# Altium schematic symbol library XU-GENARAL SCH.SCHLIB: 318 symbols (part 2 of 2)
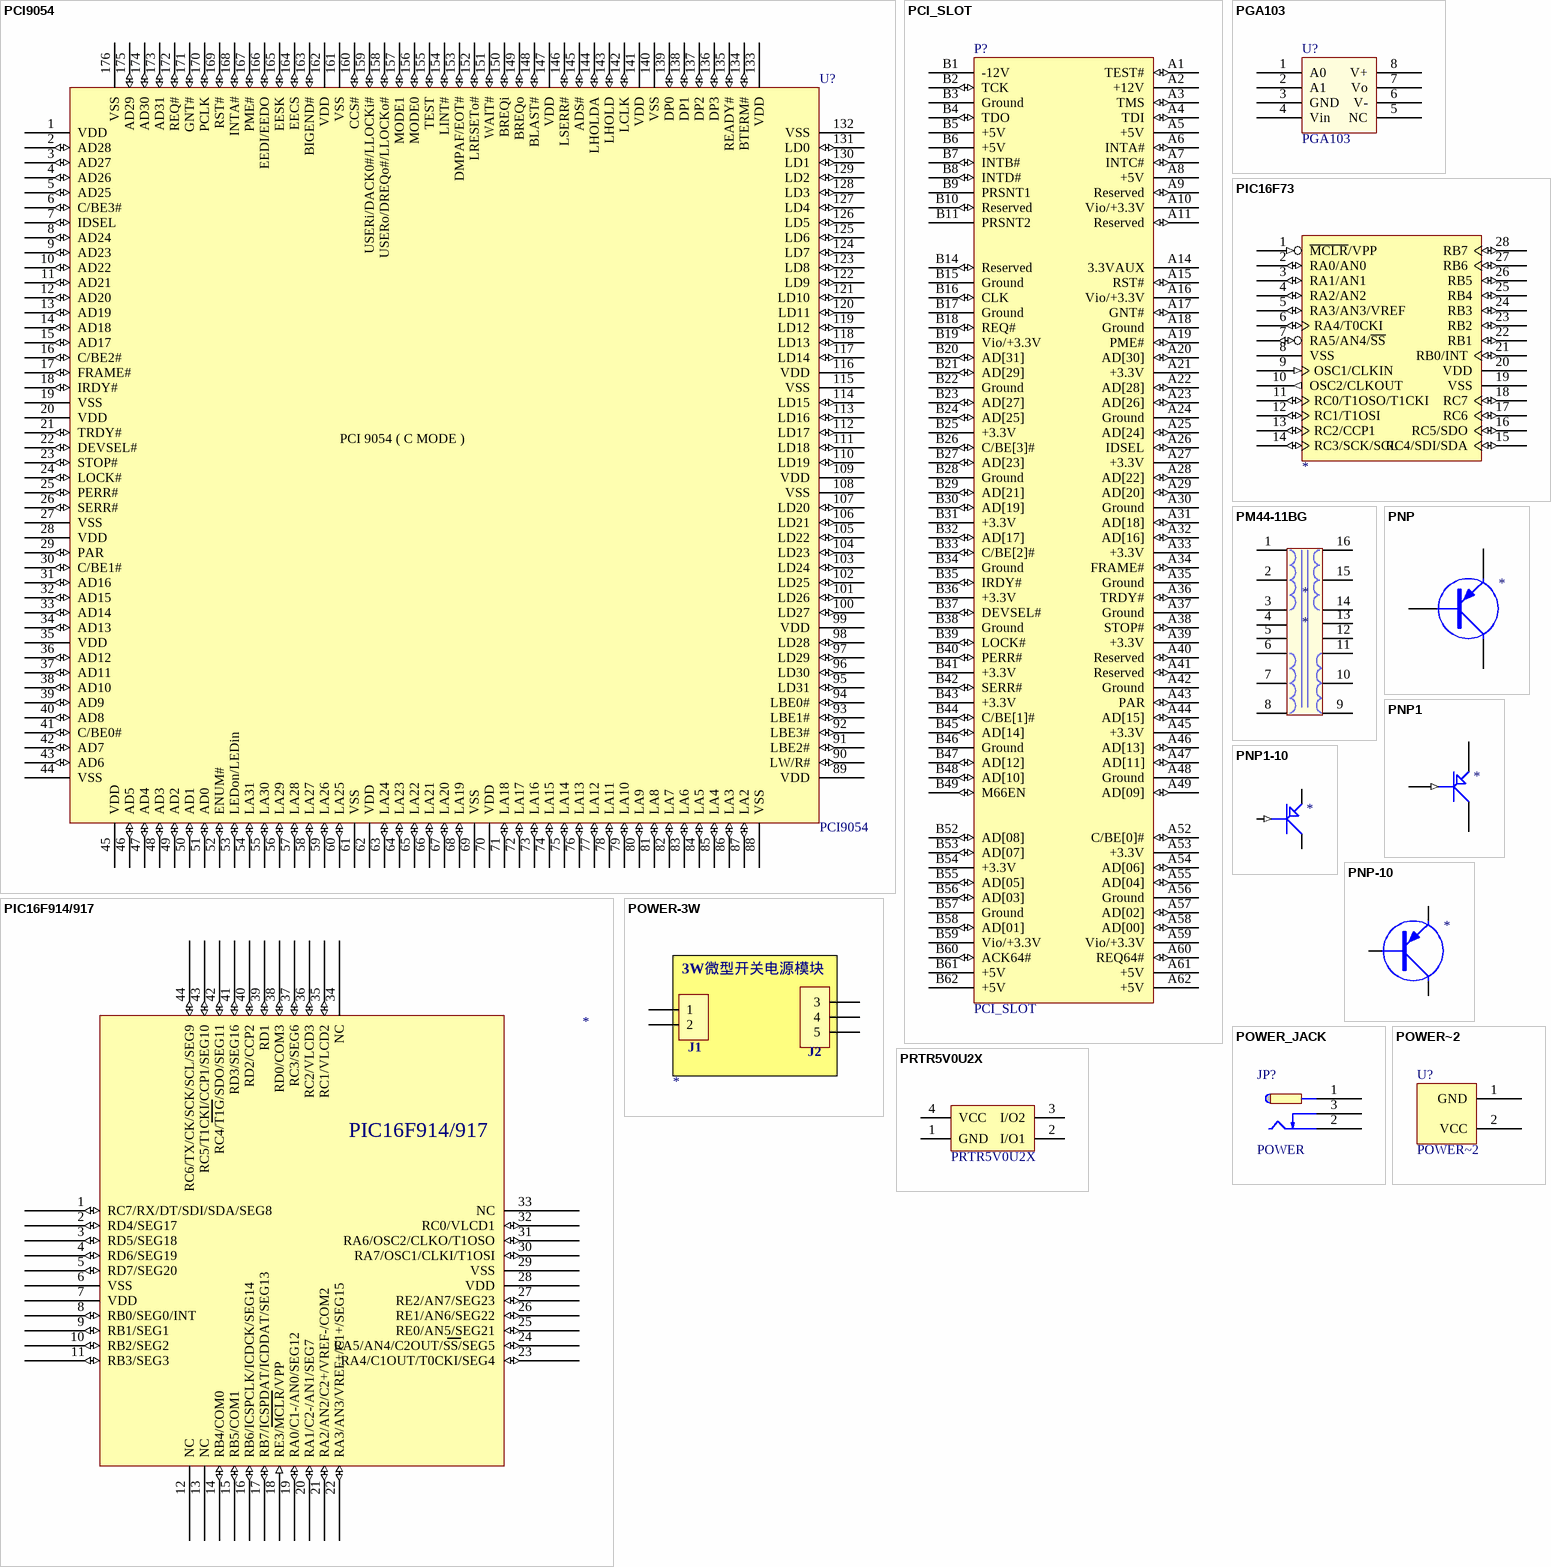
[diagram p15: symbols PCI9054 to PRTR5V0U2X]

## PCI9054
designator U?
footprint PQFP176
pins: 1 VDD, 2 AD28 (io), 3 AD27 (io), 4 AD26 (io), 5 AD25 (io), 6 C/BE3# (io), 7 IDSEL (io), 8 AD24 (io), 9 AD23 (io), 10 AD22 (io), 11 AD21 (io), 12 AD20 (io), 13 AD19 (io), 14 AD18 (io), 15 AD17 (io), 16 C/BE2# (io), 17 FRAME# (io), 18 IRDY# (io), 19 VSS, 20 VDD, 21 TRDY# (io), 22 DEVSEL# (io), 23 STOP# (io), 24 LOCK# (io), 25 PERR# (io), 26 SERR# (io), 27 VSS, 28 VDD, 29 PAR (io), 30 C/BE1# (io), 31 AD16 (io), 32 AD15 (io), 33 AD14 (io), 34 AD13 (io), 35 VDD, 36 AD12 (io), 37 AD11 (io), 38 AD10 (io), 39 AD9 (io), 40 AD8 (io), 41 C/BE0# (io), 42 AD7 (io), 43 AD6 (io), 44 VSS, 45 VDD, 46 AD5 (io), 47 AD4 (io), 48 AD3 (io), 49 AD2 (io), 50 AD1 (io), 51 AD0 (io), 52 ENUM# (io), 53 LEDon/LEDin (io), 54 LA31 (io), 55 LA30 (io), 56 LA29 (io), 57 LA28 (io), 58 LA27 (io), 59 LA26 (io), 60 LA25 (io), 61 VSS, 62 VDD, 63 LA24 (io), 64 LA23 (io), 65 LA22 (io), 66 LA21 (io), 67 LA20 (io), 68 LA19 (io), 69 VSS, 70 VDD, 71 LA18 (io), 72 LA17 (io), 73 LA16 (io), 74 LA15 (io), 75 LA14 (io), 76 LA13 (io), 77 LA12 (io), 78 LA11 (io), 79 LA10 (io), 80 LA9 (io), 81 LA8 (io), 82 LA7 (io), 83 LA6 (io), 84 LA5 (io), 85 LA4 (io), 86 LA3 (io), 87 LA2 (io), 88 VSS, 89 VDD, 90 LW/R# (io), 91 LBE2# (io), 92 LBE3# (io), 93 LBE1# (io), 94 LBE0# (io), 95 LD31 (io), 96 LD30 (io), 97 LD29 (io), 98 LD28 (io), 99 VDD, 100 LD27 (io), 101 LD26 (io), 102 LD25 (io), 103 LD24 (io), 104 LD23 (io), 105 LD22 (io), 106 LD21 (io), 107 LD20 (io), 108 VSS, 109 VDD, 110 LD19 (io), 111 LD18 (io), 112 LD17 (io), 113 LD16 (io), 114 LD15 (io), 115 VSS, 116 VDD, 117 LD14 (io), 118 LD13 (io), 119 LD12 (io), 120 LD11 (io), 121 LD10 (io), 122 LD9 (io), 123 LD8 (io), 124 LD7 (io), 125 LD6 (io), 126 LD5 (io), 127 LD4 (io), 128 LD3 (io), 129 LD2 (io), 130 LD1 (io), 131 LD0 (io), 132 VSS, 133 VDD, 134 BTERM# (io), 135 READY# (io), 136 DP3 (io), 137 DP2 (io), 138 DP1 (io), 139 DP0 (io), 140 VSS, 141 VDD, 142 LCLK (io), 143 LHOLD (io), 144 LHOLDA (io), 145 ADS# (io), 146 LSERR# (io), 147 VDD, 148 BLAST# (io), 149 BREQo (io), 150 BREQi (io), 151 WAIT# (io), 152 LRESETo# (io), 153 DMPAF/EOT# (io), 154 LINT# (io), 155 TEST (io), 156 MODE0 (io), 157 MODE1 (io), 158 USERo/DREQo#/LLOCKo# (io), 159 USERi/DACK0#/LLOCKi# (io), 160 CCS# (io), 161 VSS, 162 VDD, 163 BIGEND# (io), 164 EECS (io), 165 EESK (io), 166 EEDI/EEDO (io), 167 PME# (io), 168 INTA# (io), 169 RST# (io), 170 PCLK (io), 171 GNT# (io), 172 REQ# (io), 173 AD31 (io), 174 AD30 (io), 175 AD29 (io), 176 VSS
text: PCI 9054 ( C MODE )

## PCI_SLOT
designator P?
footprint PCIUV32BIT
pins: A1 TEST# (io), A2 +12V, A3 TMS (io), A4 TDI (io), A5 +5V, A6 INTA# (io), A7 INTC# (io), A8 +5V, A9 Reserved (io), A10 Vio/+3.3V, A11 Reserved (io), A14 3.3VAUX, A15 RST# (io), A16 Vio/+3.3V, A17 GNT# (io), A18 Ground, A19 PME# (io), A20 AD[30] (io), A21 +3.3V, A22 AD[28] (io), A23 AD[26] (io), A24 Ground, A25 AD[24] (io), A26 IDSEL (io), A27 +3.3V, A28 AD[22] (io), A29 AD[20] (io), A30 Ground, A31 AD[18] (io), A32 AD[16] (io), A33 +3.3V, A34 FRAME# (io), A35 Ground, A36 TRDY# (io), A37 Ground, A38 STOP# (io), A39 +3.3V, A40 Reserved (io), A41 Reserved (io), A42 Ground, A43 PAR (io), A44 AD[15] (io), A45 +3.3V, A46 AD[13] (io), A47 AD[11] (io), A48 Ground, A49 AD[09] (io), A52 C/BE[0]# (io), A53 +3.3V, A54 AD[06] (io), A55 AD[04] (io), A56 Ground (power), A57 AD[02] (io), A58 AD[00] (io), A59 Vio/+3.3V, A60 REQ64# (io), A61 +5V, A62 +5V, B1 -12V, B2 TCK (io), B3 Ground, B4 TDO (io), B5 +5V, B6 +5V, B7 INTB# (io), B8 INTD# (io), B9 PRSNT1 (power), B10 Reserved (io), B11 PRSNT2 (power), B14 Reserved (io), B15 Ground, B16 CLK (io), B17 Ground, B18 REQ# (io), B19 Vio/+3.3V, B20 AD[31] (io), B21 AD[29] (io), B22 Ground, B23 AD[27] (io), B24 AD[25] (io), B25 +3.3V, B26 C/BE[3]# (io), B27 AD[23] (io), B28 Ground, B29 AD[21] (io), B30 AD[19] (io), B31 +3.3V, B32 AD[17] (io), B33 C/BE[2]# (io), B34 Ground, B35 IRDY# (io), B36 +3.3V, B37 DEVSEL# (io), B38 Ground, B39 LOCK# (io), B40 PERR# (io), B41 +3.3V, B42 SERR# (io), B43 +3.3V, B44 C/BE[1]# (io), B45 AD[14] (io), B46 Ground, B47 AD[12] (io), B48 AD[10] (io), B49 M66EN (io), B52 AD[08] (io), B53 AD[07] (io), B54 +3.3V, B55 AD[05] (io), B56 AD[03] (io), B57 Ground, B58 AD[01] (io), B59 Vio/+3.3V, B60 ACK64# (io), B61 +5V, B62 +5V

## PGA103
designator U?
footprint SO8
pins: 1 A0, 2 A1, 3 GND, 4 Vin, 5 NC, 6 V-, 7 Vo, 8 V+

## PIC16F73
designator ?
pins: 1 ~{MCLR}/VPP (in), 2 RA0/AN0 (io), 3 RA1/AN1 (io), 4 RA2/AN2 (io), 5 RA3/AN3/VREF (io), 6 RA4/T0CKI (io), 7 RA5/AN4/~{SS} (io), 8 VSS, 9 OSC1/CLKIN (in), 10 OSC2/CLKOUT (out), 11 RC0/T1OSO/T1CKI (io), 12 RC1/T1OSI (io), 13 RC2/CCP1 (io), 14 RC3/SCK/SCL (io), 15 RC4/SDI/SDA (io), 16 RC5/SDO (io), 17 RC6 (io), 18 RC7 (io), 19 VSS, 20 VDD, 21 RB0/INT (io), 22 RB1 (io), 23 RB2 (io), 24 RB3 (io), 25 RB4 (io), 26 RB5 (io), 27 RB6 (io), 28 RB7 (io)

## PIC16F914/917
designator ?
pins: 1 RC7/RX/DT/SDI/SDA/SEG8 (io), 2 RD4/SEG17 (io), 3 RD5/SEG18 (io), 4 RD6/SEG19 (io), 5 RD7/SEG20 (io), 6 VSS (power), 7 VDD (power), 8 RB0/SEG0/INT (io), 9 RB1/SEG1 (io), 10 RB2/SEG2 (io), 11 RB3/SEG3 (io), 12 NC, 13 NC, 14 RB4/COM0 (io), 15 RB5/COM1 (io), 16 RB6/ICSPCLK/ICDCK/SEG14 (io), 17 RB7/ICSPDAT/ICDDAT/SEG13 (io), 18 RE3/MCLR/VPP (in), 19 RA0/C1-/AN0/SEG12 (io), 20 RA1/C2-/AN1/SEG7 (io), 21 RA2/AN2/C2+/VREF-/COM2 (io), 22 RA3/AN3/VREF+/C1+/SEG15 (io), 23 RA4/C1OUT/T0CKI/SEG4 (io), 24 RA5/AN4/C2OUT/SS/SEG5 (io), 25 RE0/AN5/SEG21 (io), 26 RE1/AN6/SEG22 (io), 27 RE2/AN7/SEG23 (io), 28 VDD (power), 29 VSS (power), 30 RA7/OSC1/CLKI/T1OSI (io), 31 RA6/OSC2/CLKO/T1OSO (io), 32 RC0/VLCD1 (io), 33 NC, 34 NC, 35 RC1/VLCD2 (io), 36 RC2/VLCD3 (io), 37 RC3/SEG6 (io), 38 RD0/COM3 (io), 39 RD1 (io), 40 RD2/CCP2 (io), 41 RD3/SEG16 (io), 42 RC4/T1G/SDO/SEG11 (io), 43 RC5/T1CKI/CCP1/SEG10 (io), 44 RC6/TX/CK/SCK/SCL/SEG9 (io)

## PM44-11BG
designator *
pins: 1, 2, 3, 4, 5, 6, 7, 8, 9, 10, 11, 12, 13, 14, 15, 16

## PNP
designator ?
pins: 1 B, 2 E, 3 C

## PNP1
designator ?
pins: 1 B (in), 2 E, 3 C

## PNP1-10
designator ?
pins: 1 B (in), 2 E, 3 C

## PNP-10
designator ?
pins: 1 B, 2 E, 3 C

## POWER-3W
designator ?
pins: 1, 2, 3, 4, 5
text: 3W微型开关电源模块; J1; J2

## POWER_JACK
designator JP?, comment POWER
Text Field1: 40; Text Field2: 40
footprint POWER_JACK_5MM
footprint POWERA
pins: 1, 2, 3

## POWER~2
designator U?
footprint POWER~2
pins: 1 GND, 2 VCC

## PRTR5V0U2X
designator ?
LatestRevisionDate: 17-Jul-2002; LatestRevisionNote: Re-released for DXP Platform.; Publisher: Altium Limited
footprint HDR2X2 (Connector; Header; 2x2 Position)
signal-integrity model Connector
pins: 1 GND, 2 I/O1, 3 I/O2, 4 VCC

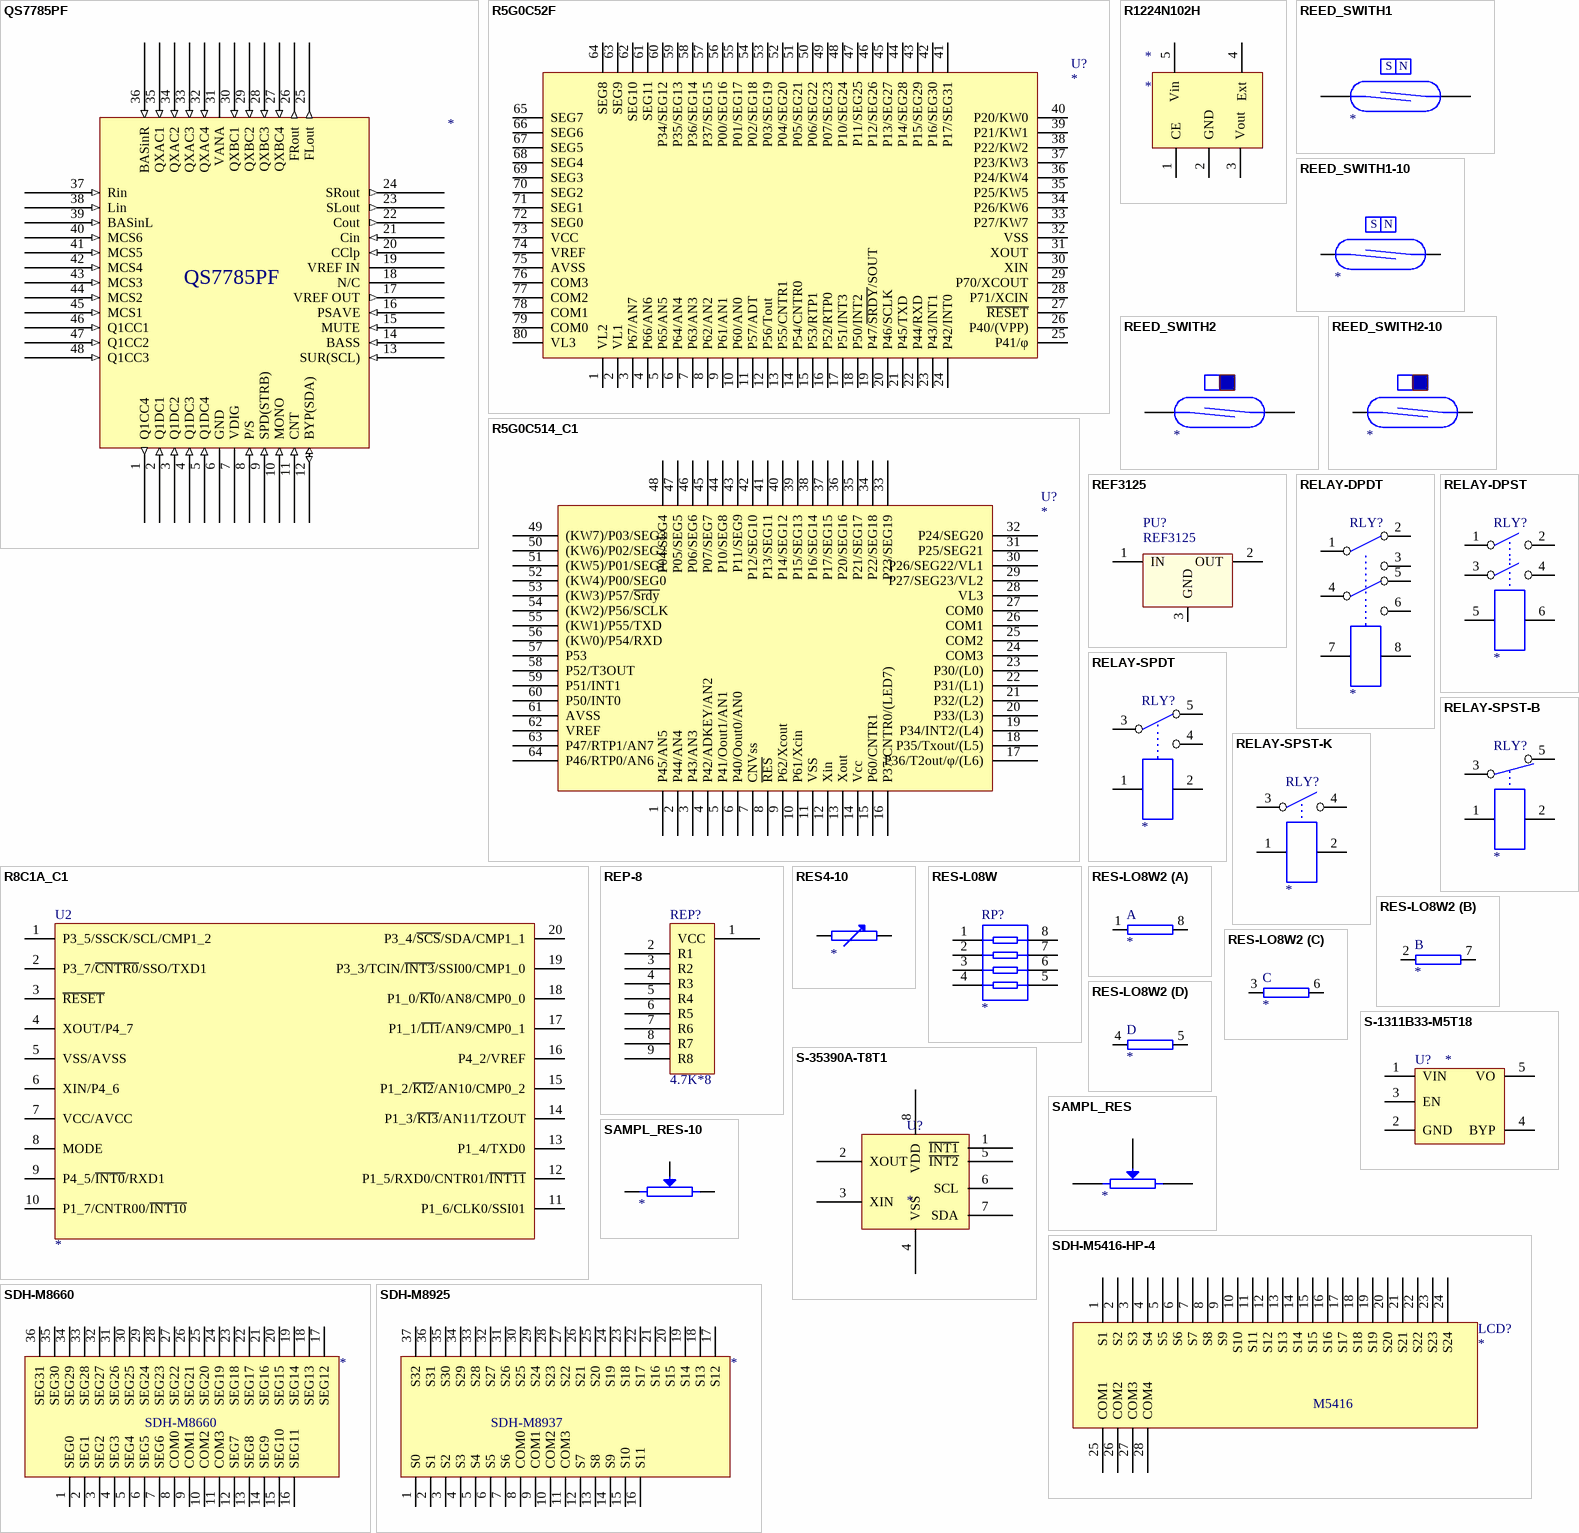
[diagram p9: symbols QS7785PF to SDH-M8925]

## QS7785PF
designator ?
pins: 1 Q1CC4 (out), 2 Q1DC1 (in), 3 Q1DC2 (in), 4 Q1DC3 (in), 5 Q1DC4 (in), 6 GND (power), 7 VDIG (power), 8 P/S (in), 9 SPD(STRB) (in), 10 MONO (in), 11 CNT (in), 12 BYP(SDA) (io), 13 SUR(SCL) (in), 14 BASS (in), 15 MUTE (in), 16 PSAVE (in), 17 VREF OUT (out), 18 N/C, 19 VREF IN, 20 CClp (in), 21 Cin (in), 22 Cout (out), 23 SLout (out), 24 SRout (out), 25 FLout (out), 26 FRout (out), 27 QXBC4 (in), 28 QXBC3 (in), 29 QXBC2 (in), 30 QXBC1 (in), 31 VANA, 32 QXAC4 (in), 33 QXAC3 (in), 34 QXAC2 (in), 35 QXAC1 (in), 36 BASinR (in), 37 Rin (in), 38 Lin (in), 39 BASinL (in), 40 MCS6 (in), 41 MCS5 (in), 42 MCS4 (in), 43 MCS3 (in), 44 MCS2 (in), 45 MCS1 (in), 46 Q1CC1 (in), 47 Q1CC2 (in), 48 Q1CC3 (in)

## R5G0C52F
designator U?
pins: 1 VL2, 2 VL1, 3 P67/AN7, 4 P66/AN6, 5 P65/AN5, 6 P64/AN4, 7 P63/AN3, 8 P62/AN2, 9 P61/AN1, 10 P60/AN0, 11 P57/ADT, 12 P56/Tout, 13 P55/CNTR1, 14 P54/CNTR0, 15 P53/RTP1, 16 P52/RTP0, 17 P51/INT3, 18 P50/INT2, 19 P47/~{SRDY}/SOUT, 20 P46/SCLK, 21 P45/TXD, 22 P44/RXD, 23 P43/INT1, 24 P42/INT0, 25 P41/φ, 26 P40/(VPP), 27 ~{RESET}, 28 P71/XCIN, 29 P70/XCOUT, 30 XIN, 31 XOUT, 32 VSS, 33 P27/KW7, 34 P26/KW6, 35 P25/KW5, 36 P24/KW4, 37 P23/KW3, 38 P22/KW2, 39 P21/KW1, 40 P20/KW0, 41 P17/SEG31, 42 P16/SEG30, 43 P15/SEG29, 44 P14/SEG28, 45 P13/SEG27, 46 P12/SEG26, 47 P11/SEG25, 48 P10/SEG24, 49 P07/SEG23, 50 P06/SEG22, 51 P05/SEG21, 52 P04/SEG20, 53 P03/SEG19, 54 P02/SEG18, 55 P01/SEG17, 56 P00/SEG16, 57 P37/SEG15, 58 P36/SEG14, 59 P35/SEG13, 60 P34/SEG12, 61 SEG11, 62 SEG10, 63 SEG9, 64 SEG8, 65 SEG7, 66 SEG6, 67 SEG5, 68 SEG4, 69 SEG3, 70 SEG2, 71 SEG1, 72 SEG0, 73 VCC, 74 VREF, 75 AVSS, 76 COM3, 77 COM2, 78 COM1, 79 COM0, 80 VL3

## R5G0C514_C1
designator U?
Micro Contral Unit
footprint HD64F38104_C1
pins: 1 P45/AN5, 2 P44/AN4, 3 P43/AN3, 4 P42/ADKEY/AN2, 5 P41/Oout1/AN1, 6 P40/Oout0/AN0, 7 CNVss, 8 ~{RES}, 9 P62/Xcout, 10 P61/Xcin, 11 VSS, 12 Xin, 13 Xout, 14 Vcc, 15 P60/CNTR1, 16 P37/CNTR0/(LED7), 17 P36/T2out/φ/(L6), 18 P35/Txout/(L5), 19 P34/INT2/(L4), 20 P33/(L3), 21 P32/(L2), 22 P31/(L1), 23 P30/(L0), 24 COM3, 25 COM2, 26 COM1, 27 COM0, 28 VL3, 29 P27/SEG23/VL2, 30 P26/SEG22/VL1, 31 P25/SEG21, 32 P24/SEG20, 33 P23/SEG19, 34 P22/SEG18, 35 P21/SEG17, 36 P20/SEG16, 37 P17/SEG15, 38 P16/SEG14, 39 P15/SEG13, 40 P14/SEG12, 41 P13/SEG11, 42 P12/SEG10, 43 P11/SEG9, 44 P10/SEG8, 45 P07/SEG7, 46 P06/SEG6, 47 P05/SEG5, 48 P04/SEG4, 49 (KW7)/P03/SEG3, 50 (KW6)/P02/SEG2, 51 (KW5)/P01/SEG1, 52 (KW4)/P00/SEG0, 53 (KW3)/P57/~{Srdy}, 54 (KW2)/P56/SCLK, 55 (KW1)/P55/TXD, 56 (KW0)/P54/RXD, 57 P53, 58 P52/T3OUT, 59 P51/INT1, 60 P50/INT0, 61 AVSS, 62 VREF, 63 P47/RTP1/AN7, 64 P46/RTP0/AN6

## R8C1A_C1
designator U2
485 driver
footprint SO-8
footprint TSSOP20
pins: 1 P3_5/SSCK/SCL/CMP1_2, 2 P3_7/~{CNTR0}/SSO/TXD1, 3 ~{RESET}, 4 XOUT/P4_7, 5 VSS/AVSS, 6 XIN/P4_6, 7 VCC/AVCC, 8 MODE, 9 P4_5/~{INT0}/RXD1, 10 P1_7/CNTR00/~{INT10}, 11 P1_6/CLK0/SSI01, 12 P1_5/RXD0/CNTR01/~{INT11}, 13 P1_4/TXD0, 14 P1_3/~{KI3}/AN11/TZOUT, 15 P1_2/~{KI2}/AN10/CMP0_2, 16 P4_2/VREF, 17 P1_1/~{LI1}/AN9/CMP0_1, 18 P1_0/~{KI}0/AN8/CMP0_0, 19 P3_3/TCIN/~{INT3}/SSI00/CMP1_0, 20 P3_4/~{SCS}/SDA/CMP1_1
2 alternate drawings of the same symbol

## R1224N102H
designator *
pins: 1 CE, 2 GND, 3 Vout, 4 Ext, 5 Vin

## REED_SWITH1
designator ?
pins: 1, 2
text: S; N

## REED_SWITH1-10
designator ?
pins: 1, 2
text: S; N

## REED_SWITH2
designator ?
pins: 1, 2

## REED_SWITH2-10
designator ?
pins: 1, 2

## REF3125
designator PU?
footprint REF3125
footprint REF3125
pins: 1 IN, 2 OUT, 3 GND

## RELAY-DPDT
designator RLY?
12V/1A
footprint 12V/1A
pins: 1, 2, 3, 4, 5, 6, 7, 8

## RELAY-DPST
designator RLY?
pins: 1, 2, 3, 4, 5, 6

## RELAY-SPDT
designator RLY?
24V
footprint 24V/40A
footprint 24V/7A
footprint 24V/40A-B
pins: 1, 2, 3, 4, 5

## RELAY-SPST-B
designator RLY?
24V
footprint 24V/40A-B
footprint 24V/40A
footprint 24V/7A
pins: 1, 2, 3, 5

## RELAY-SPST-K
designator RLY?
footprint 24V/40A-B
footprint 24V/40A
footprint 24V/7A
pins: 1, 2, 3, 4

## REP-8
designator REP?, comment 4.7K*8
footprint SIP9
pins: 1 VCC, 2 R1, 3 R2, 4 R3, 5 R4, 6 R5, 7 R6, 8 R7, 9 R8

## RES4-10
designator ?
pins: 1, 2

## RES-L08W
designator RP?
footprint DIP-16
pins: 1, 2, 3, 4, 5, 6, 7, 8

## RES-LO8W2
designator ?
part A pins: 1, 8
part B pins: 2, 7
part C pins: 3, 6
part D pins: 4, 5

## S-1311B33-M5T18
designator U?
footprint LM2576
pins: 1 VIN, 2 GND, 3 EN, 4 BYP, 5 VO

## S-35390A-T8T1
designator U?
footprint SOT-23-5
pins: 1 ~{INT1}, 2 XOUT, 3 XIN, 4 VSS, 5 ~{INT2}, 6 SCL, 7 SDA, 8 VDD

## SAMPL_RES
designator ?
pins: 1, 2, 3 2

## SAMPL_RES-10
designator ?
pins: 1, 2, 3 2

## SDH-M5416-HP-4
designator LCD?
pins: 1 S1, 2 S2, 3 S3, 4 S4, 5 S5, 6 S6, 7 S7, 8 S8, 9 S9, 10 S10, 11 S11, 12 S12, 13 S13, 14 S14, 15 S15, 16 S16, 17 S17, 18 S18, 19 S19, 20 S20, 21 S21, 22 S22, 23 S23, 24 S24, 25 COM1, 26 COM2, 27 COM3, 28 COM4
text: M5416

## SDH-M8660
designator ?
pins: 1 SEG0, 2 SEG1, 3 SEG2, 4 SEG3, 5 SEG4, 6 SEG5, 7 SEG6, 8 COM0, 9 COM1, 10 COM2, 11 COM3, 12 SEG7, 13 SEG8, 14 SEG9, 15 SEG10, 16 SEG11, 17 SEG12, 18 SEG13, 19 SEG14, 20 SEG15, 21 SEG16, 22 SEG17, 23 SEG18, 24 SEG19, 25 SEG20, 26 SEG21, 27 SEG22, 28 SEG23, 29 SEG24, 30 SEG25, 31 SEG26, 32 SEG27, 33 SEG28, 34 SEG29, 35 SEG30, 36 SEG31

## SDH-M8925
designator ?
pins: 1 S0, 2 S1, 3 S2, 4 S3, 5 S4, 6 S5, 7 S6, 8 COM0, 9 COM1, 10 COM2, 11 COM3, 12 S7, 13 S8, 14 S9, 15 S10, 16 S11, 17 S12, 18 S13, 19 S14, 20 S15, 21 S16, 22 S17, 23 S18, 24 S19, 25 S20, 26 S21, 27 S22, 28 S23, 29 S24, 30 S25, 31 S26, 32 S27, 33 S28, 34 S29, 35 S30, 36 S31, 37 S32
text: SDH-M8937

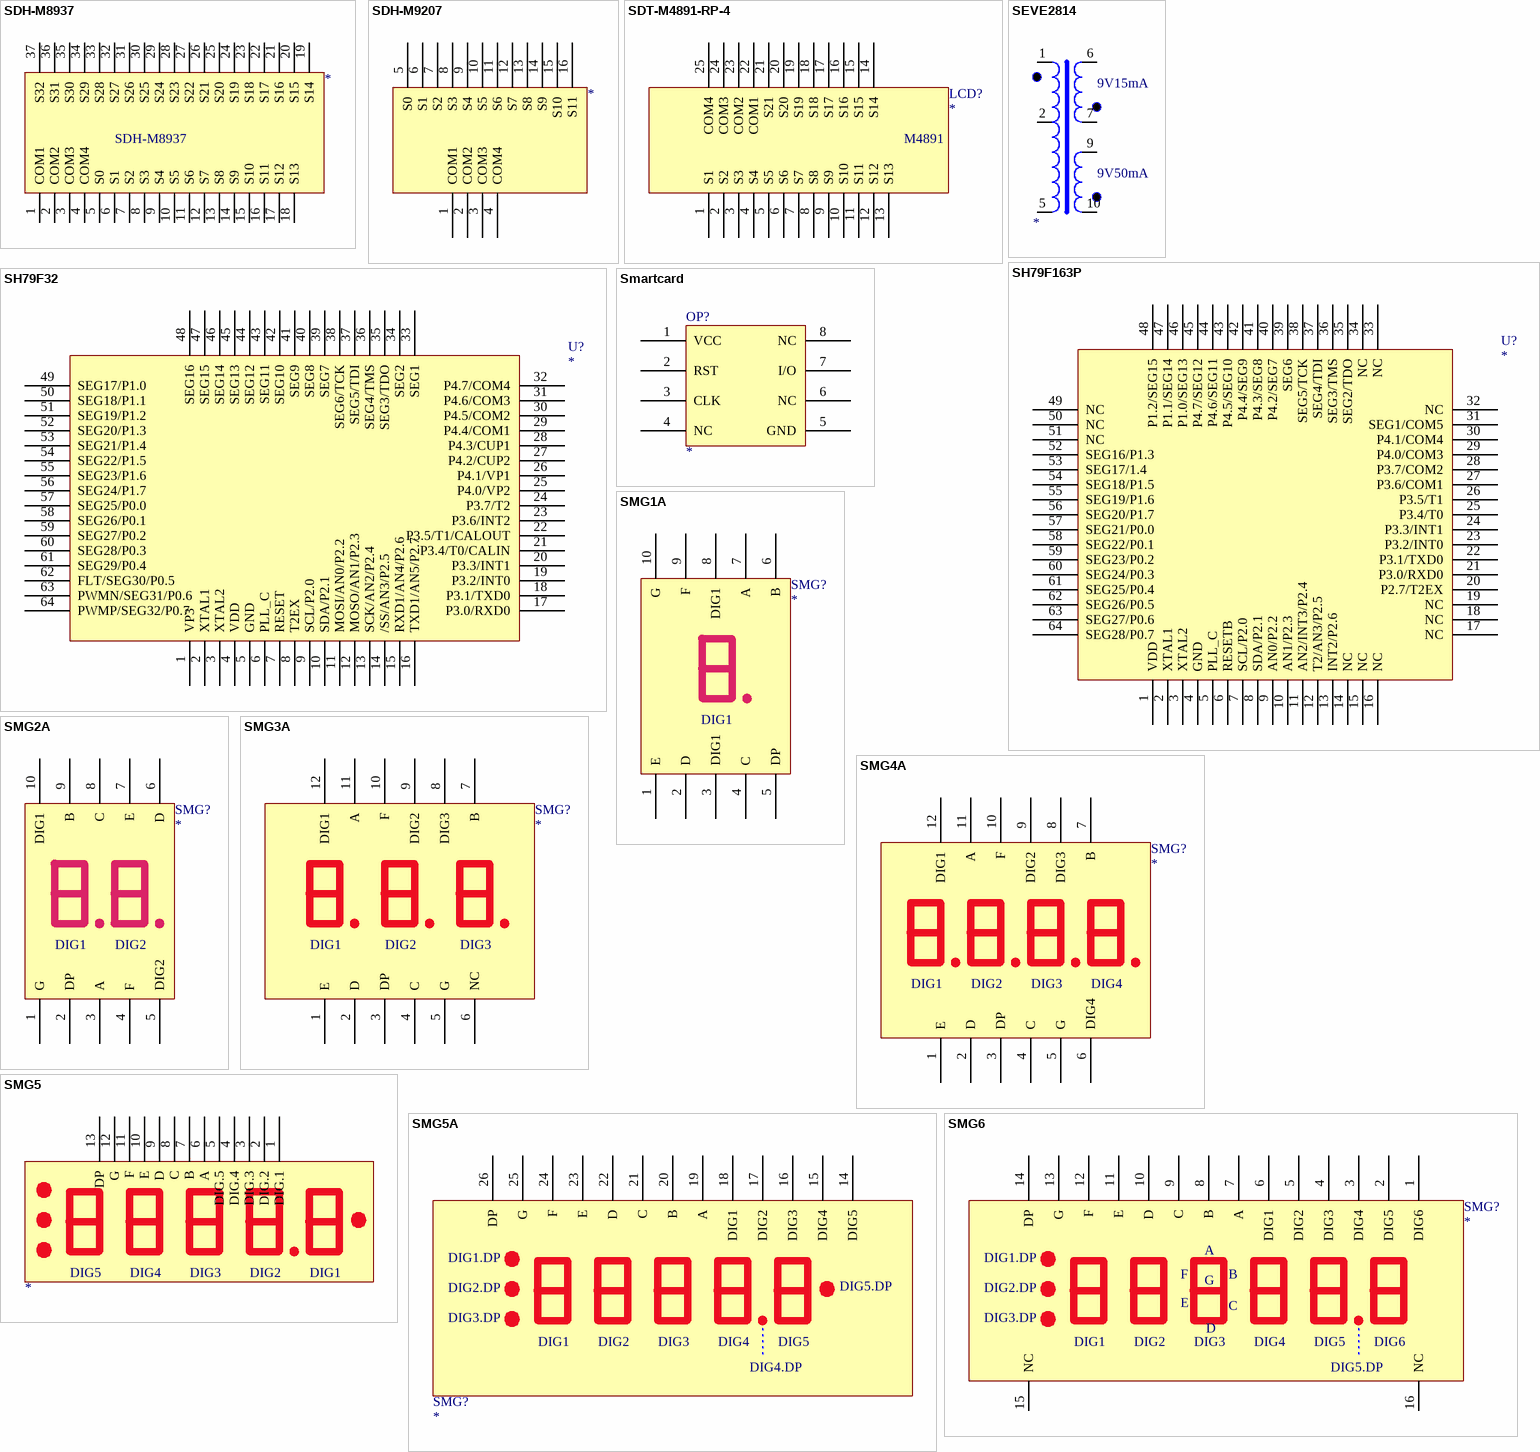
[diagram p10: symbols SDH-M8937 to SMG6]

## SDH-M8937
designator ?
pins: 1 COM1, 2 COM2, 3 COM3, 4 COM4, 5 S0, 6 S1, 7 S2, 8 S3, 9 S4, 10 S5, 11 S6, 12 S7, 13 S8, 14 S9, 15 S10, 16 S11, 17 S12, 18 S13, 19 S14, 20 S15, 21 S16, 22 S17, 23 S18, 24 S19, 25 S20, 26 S21, 27 S22, 28 S23, 29 S24, 30 S25, 31 S26, 32 S27, 33 S28, 34 S29, 35 S30, 36 S31, 37 S32

## SDH-M9207
designator ?
pins: 1 COM1, 2 COM2, 3 COM3, 4 COM4, 5 S0, 6 S1, 7 S2, 8 S3, 9 S4, 10 S5, 11 S6, 12 S7, 13 S8, 14 S9, 15 S10, 16 S11

## SDT-M4891-RP-4
designator LCD?
pins: 1 S1, 2 S2, 3 S3, 4 S4, 5 S5, 6 S6, 7 S7, 8 S8, 9 S9, 10 S10, 11 S11, 12 S12, 13 S13, 14 S14, 15 S15, 16 S16, 17 S17, 18 S18, 19 S19, 20 S20, 21 S21, 22 COM1, 23 COM2, 24 COM3, 25 COM4
text: M4891

## SEVE2814
designator ?
footprint KD2818-01
pins: 1, 2, 5, 6, 7, 9, 10
text: 9V15mA; 9V50mA

## SH79F32
designator U?
Micro Contral Unit
footprint HD64F38104_C1
pins: 1 VP3, 2 XTAL1, 3 XTAL2, 4 VDD, 5 GND, 6 PLL_C, 7 RESET, 8 T2EX, 9 SCL/P2.0, 10 SDA/P2.1, 11 MOSI/AN0/P2.2, 12 MOSO/AN1/P2.3, 13 SCK/AN2/P2.4, 14 /SS/AN3/P2.5, 15 RXD1/AN4/P2.6, 16 TXD1/AN5/P2.7, 17 P3.0/RXD0, 18 P3.1/TXD0, 19 P3.2/INT0, 20 P3.3/INT1, 21 P3.4/T0/CALIN, 22 P3.5/T1/CALOUT, 23 P3.6/INT2, 24 P3.7/T2, 25 P4.0/VP2, 26 P4.1/VP1, 27 P4.2/CUP2, 28 P4.3/CUP1, 29 P4.4/COM1, 30 P4.5/COM2, 31 P4.6/COM3, 32 P4.7/COM4, 33 SEG1, 34 SEG2, 35 SEG3/TDO, 36 SEG4/TMS, 37 SEG5/TDI, 38 SEG6/TCK, 39 SEG7, 40 SEG8, 41 SEG9, 42 SEG10, 43 SEG11, 44 SEG12, 45 SEG13, 46 SEG14, 47 SEG15, 48 SEG16, 49 SEG17/P1.0, 50 SEG18/P1.1, 51 SEG19/P1.2, 52 SEG20/P1.3, 53 SEG21/P1.4, 54 SEG22/P1.5, 55 SEG23/P1.6, 56 SEG24/P1.7, 57 SEG25/P0.0, 58 SEG26/P0.1, 59 SEG27/P0.2, 60 SEG28/P0.3, 61 SEG29/P0.4, 62 FLT/SEG30/P0.5, 63 PWMN/SEG31/P0.6, 64 PWMP/SEG32/P0.7

## SH79F163P
designator U?
Micro Contral Unit
footprint HD64F38104_C1
pins: 1 VDD, 2 XTAL1, 3 XTAL2, 4 GND, 5 PLL_C, 6 RESETB, 7 SCL/P2.0, 8 SDA/P2.1, 9 AN0/P2.2, 10 AN1/P2.3, 11 AN2/INT3/P2.4, 12 T2/AN3/P2.5, 13 INT2/P2.6, 14 NC, 15 NC, 16 NC, 17 NC, 18 NC, 19 NC, 20 P2.7/T2EX, 21 P3.0/RXD0, 22 P3.1/TXD0, 23 P3.2/INT0, 24 P3.3/INT1, 25 P3.4/T0, 26 P3.5/T1, 27 P3.6/COM1, 28 P3.7/COM2, 29 P4.0/COM3, 30 P4.1/COM4, 31 SEG1/COM5, 32 NC, 33 NC, 34 NC, 35 SEG2/TDO, 36 SEG3/TMS, 37 SEG4/TDI, 38 SEG5/TCK, 39 SEG6, 40 P4.2/SEG7, 41 P4.3/SEG8, 42 P4.4/SEG9, 43 P4.5/SEG10, 44 P4.6/SEG11, 45 P4.7/SEG12, 46 P1.0/SEG13, 47 P1.1/SEG14, 48 P1.2/SEG15, 49 NC, 50 NC, 51 NC, 52 SEG16/P1.3, 53 SEG17/1.4, 54 SEG18/P1.5, 55 SEG19/P1.6, 56 SEG20/P1.7, 57 SEG21/P0.0, 58 SEG22/P0.1, 59 SEG23/P0.2, 60 SEG24/P0.3, 61 SEG25/P0.4, 62 SEG26/P0.5, 63 SEG27/P0.6, 64 SEG28/P0.7

## Smartcard
designator OP?
footprint DIP8
pins: 1 VCC, 2 RST, 3 CLK, 4 NC, 5 GND, 6 NC, 7 I/O, 8 NC

## SMG1A
designator SMG?
pins: 1 E, 2 D, 3 DIG1, 4 C, 5 DP, 6 B, 7 A, 8 DIG1, 9 F, 10 G

## SMG2A
designator SMG?
pins: 1 G, 2 DP, 3 A, 4 F, 5 DIG2, 6 D, 7 E, 8 C, 9 B, 10 DIG1

## SMG3A
designator SMG?
pins: 1 E, 2 D, 3 DP, 4 C, 5 G, 6 NC, 7 B, 8 DIG3, 9 DIG2, 10 F, 11 A, 12 DIG1

## SMG4A
designator SMG?
pins: 1 E, 2 D, 3 DP, 4 C, 5 G, 6 DIG4, 7 B, 8 DIG3, 9 DIG2, 10 F, 11 A, 12 DIG1

## SMG5
designator ?
pins: 1 DIG.1, 2 DIG.2, 3 DIG.3, 4 DIG.4, 5 DIG.5, 6 A, 7 B, 8 C, 9 D, 10 E, 11 F, 12 G, 13 DP
text: DIG5; DIG4; DIG3; DIG2; DIG1

## SMG5A
designator SMG?
pins: 14 DIG5, 15 DIG4, 16 DIG3, 17 DIG2, 18 DIG1, 19 A, 20 B, 21 C, 22 D, 23 E, 24 F, 25 G, 26 DP
text: DIG1.DP; DIG2.DP; DIG5.DP; DIG3.DP; DIG4.DP

## SMG6
designator SMG?
pins: 1 DIG6, 2 DIG5, 3 DIG4, 4 DIG3, 5 DIG2, 6 DIG1, 7 A, 8 B, 9 C, 10 D, 11 E, 12 F, 13 G, 14 DP, 15 NC, 16 NC
text: DIG1.DP; DIG2.DP; DIG3.DP; DIG5.DP

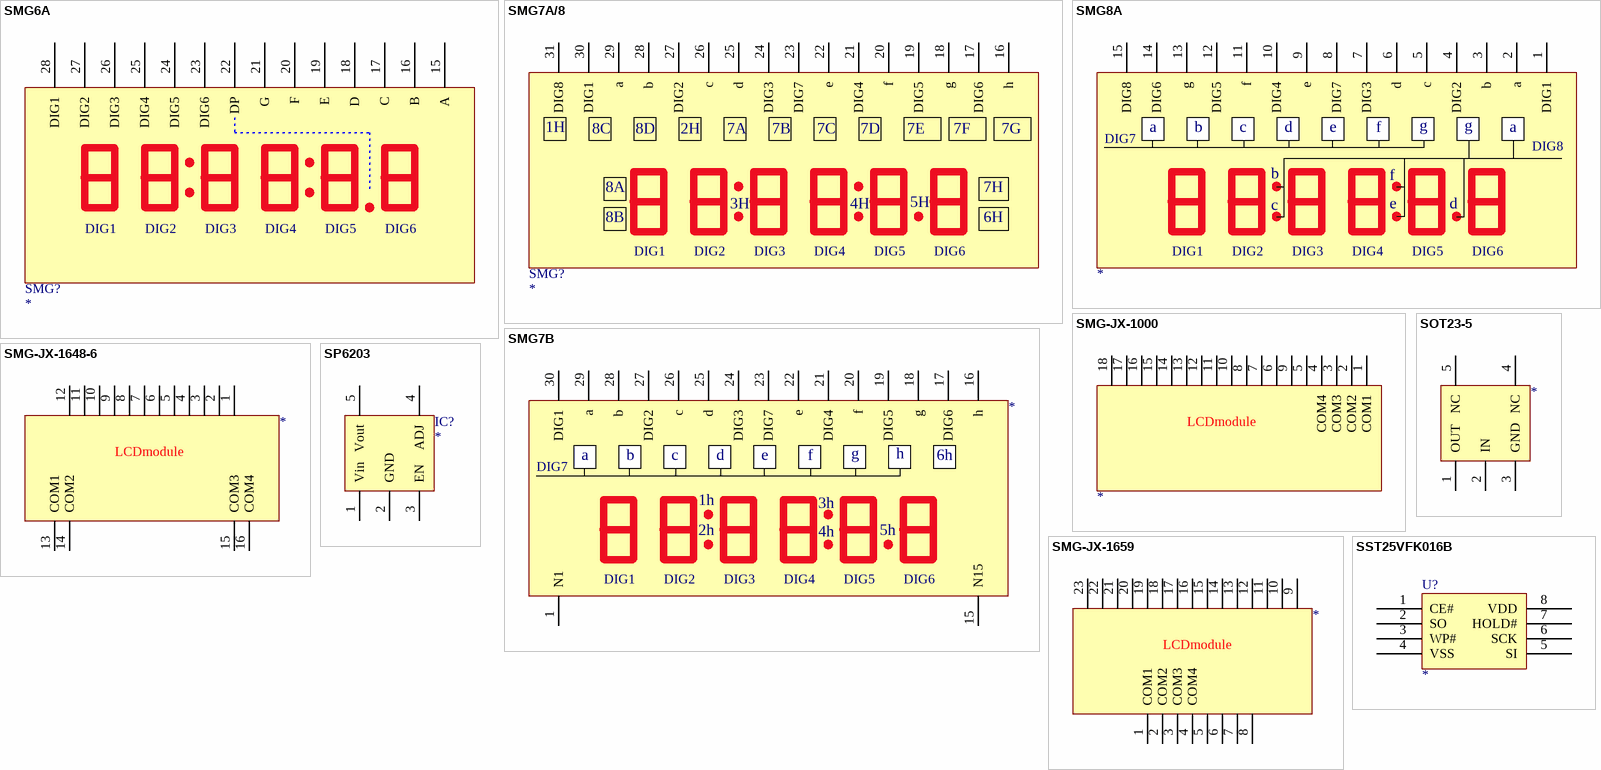
[diagram p11: symbols SMG6A to SST25VFK016B]

## SMG6A
designator SMG?
pins: 15 A, 16 B, 17 C, 18 D, 19 E, 20 F, 21 G, 22 DP, 23 DIG6, 24 DIG5, 25 DIG4, 26 DIG3, 27 DIG2, 28 DIG1

## SMG7A/8
designator SMG?
footprint SMG7/8-M
footprint SMG7/8-U
footprint SMG7/8-D
footprint SMG6-D
pins: 16 h, 17 DIG6, 18 g, 19 DIG5, 20 f, 21 DIG4, 22 e, 23 DIG7, 24 DIG3, 25 d, 26 c, 27 DIG2, 28 b, 29 a, 30 DIG1, 31 DIG8
text: 1H; 8C; 8D; 2H; 7A; 7B; 7C; 7D; 7E; 7F; 7G; 8A; 7H; 3H; 4H; 5H; 8B; 6H

## SMG7B
designator ?
pins: 1 N1, 15 N15, 16 h, 17 DIG6, 18 g, 19 DIG5, 20 f, 21 DIG4, 22 e, 23 DIG7, 24 DIG3, 25 d, 26 c, 27 DIG2, 28 b, 29 a, 30 DIG1
text: 6h; 1h; 3h; 2h; 4h; 5h

## SMG8A
designator ?
pins: 1 DIG1, 2 a, 3 b, 4 DIG2, 5 c, 6 d, 7 DIG3, 8 DIG7, 9 e, 10 DIG4, 11 f, 12 DIG5, 13 g, 14 DIG6, 15 DIG8

## SMG-JX-1000
designator ?
pins: 1 COM1, 2 COM2, 3 COM3, 4 COM4, 5, 6, 7, 8, 9, 10, 11, 12, 13, 14, 15, 16, 17, 18
text: LCDmodule

## SMG-JX-1648-6
designator ?
pins: 1, 2, 3, 4, 5, 6, 7, 8, 9, 10, 11, 12, 13 COM1, 14 COM2, 15 COM3, 16 COM4
text: LCDmodule

## SMG-JX-1659
designator ?
pins: 1 COM1, 2 COM2, 3 COM3, 4 COM4, 5, 6, 7, 8, 9, 10, 11, 12, 13, 14, 15, 16, 17, 18, 19, 20, 21, 22, 23
text: LCDmodule

## SOT23-5
designator ?
pins: 1 OUT, 2 IN, 3 GND, 4 NC, 5 NC

## SP6203
designator IC?
7805
footprint TO-92B
pins: 1 Vin, 2 GND, 3 EN, 4 ADJ, 5 Vout

## SST25VFK016B
designator U?
footprint SO-8
footprint DIP8
pins: 1 CE#, 2 SO, 3 WP#, 4 VSS, 5 SI, 6 SCK, 7 HOLD#, 8 VDD

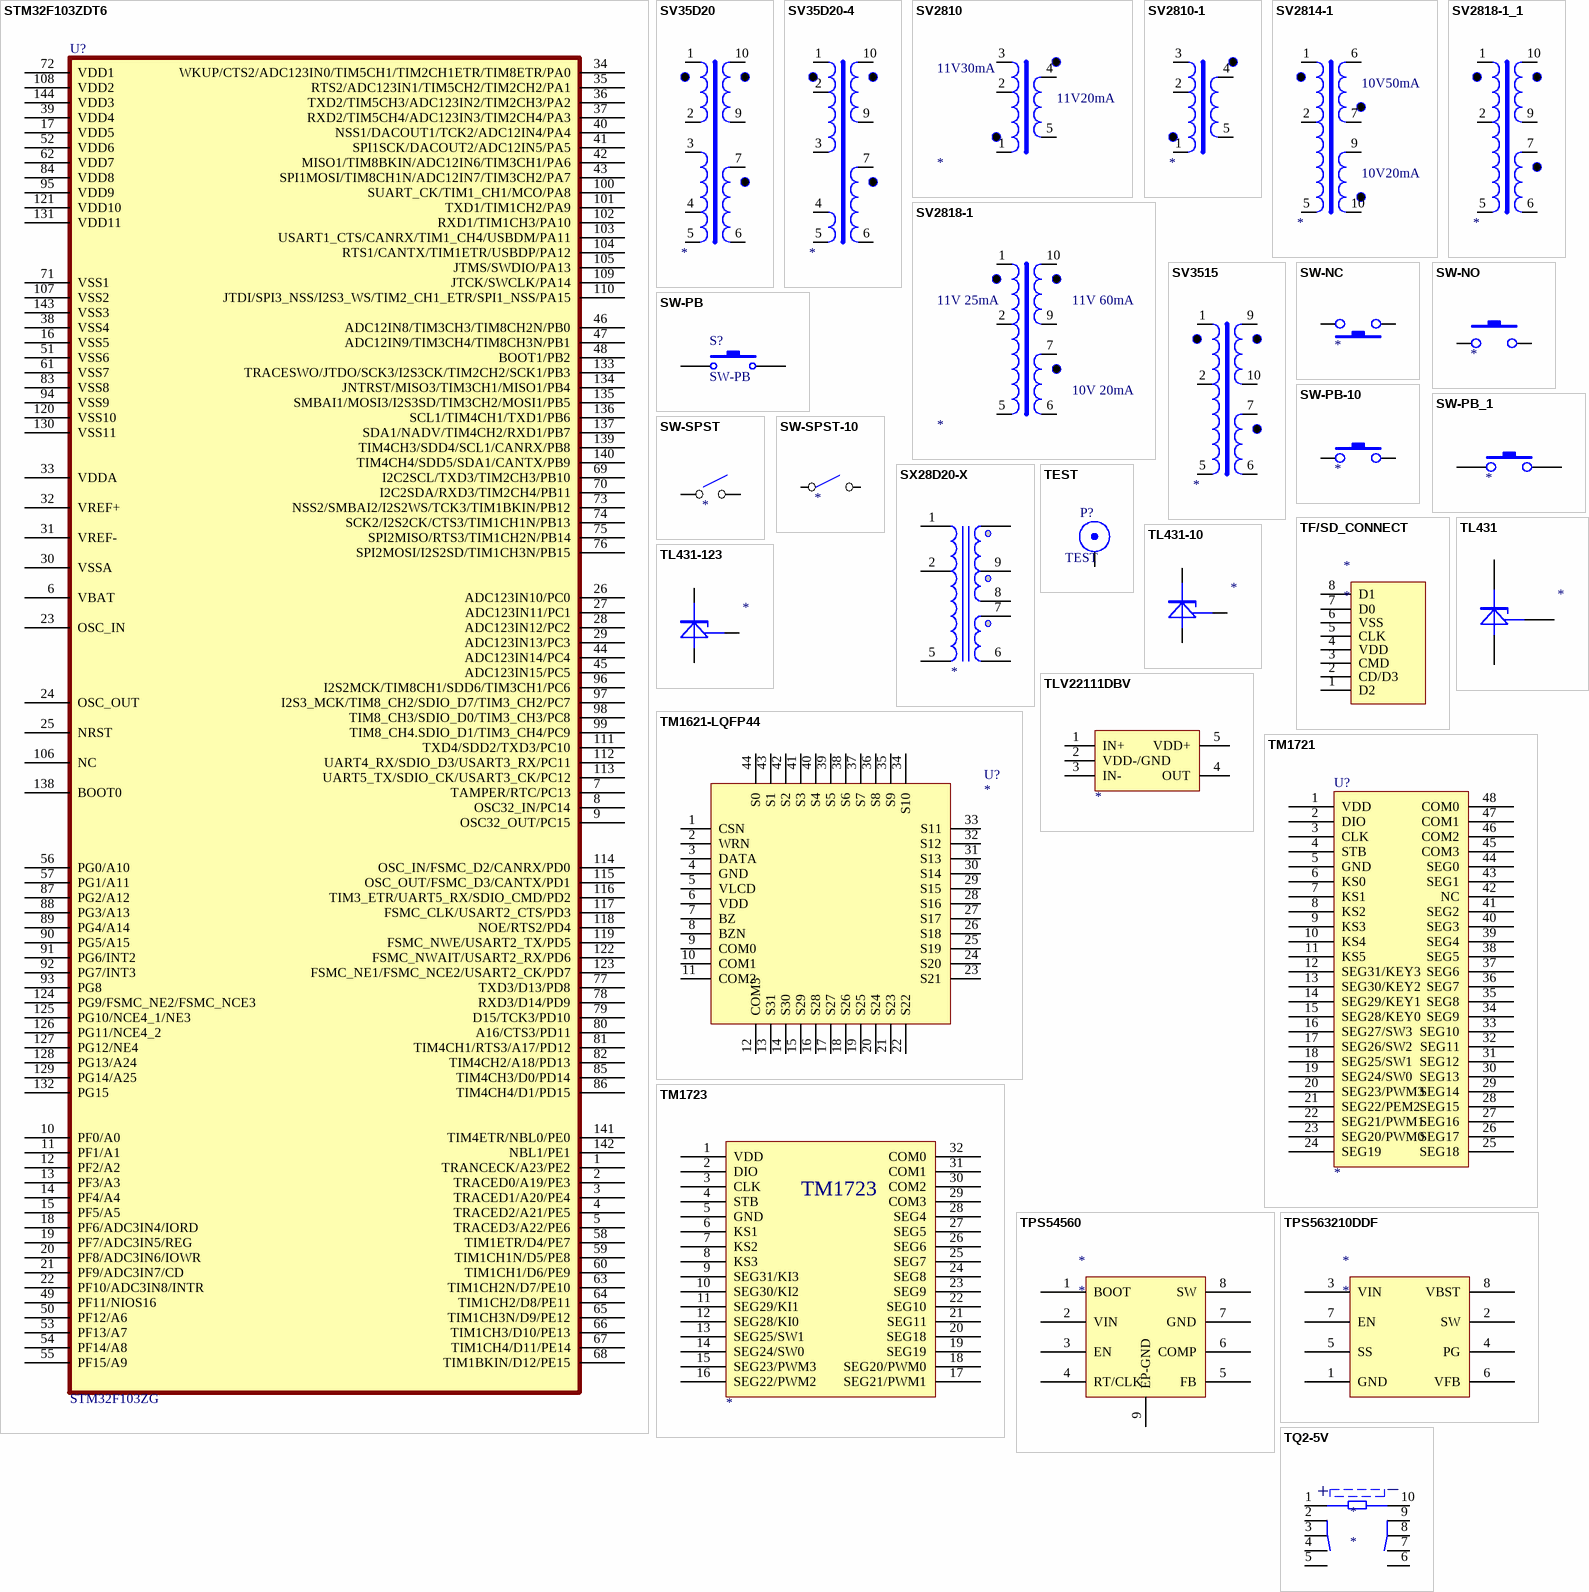
[diagram p12: symbols STM32F103ZDT6 to TQ2-5V]

## STM32F103ZDT6
designator U?, comment STM32F103ZG
ST High-density performance line ARM-based 32-bit MCU with 256 to 512KB Flash, USB, CAN, 11 timers, 3 ADCs, 13 communication interfaces
footprint TQFP144_N (Footprint not found)
pins: 1 TRANCECK/A23/PE2, 2 TRACED0/A19/PE3, 3 TRACED1/A20/PE4, 4 TRACED2/A21/PE5, 5 TRACED3/A22/PE6, 6 VBAT, 7 TAMPER/RTC/PC13, 8 OSC32_IN/PC14, 9 OSC32_OUT/PC15, 10 PF0/A0, 11 PF1/A1, 12 PF2/A2, 13 PF3/A3, 14 PF4/A4, 15 PF5/A5, 16 VSS5, 17 VDD5, 18 PF6/ADC3IN4/IORD, 19 PF7/ADC3IN5/REG, 20 PF8/ADC3IN6/IOWR, 21 PF9/ADC3IN7/CD, 22 PF10/ADC3IN8/INTR, 23 OSC_IN, 24 OSC_OUT, 25 NRST, 26 ADC123IN10/PC0, 27 ADC123IN11/PC1, 28 ADC123IN12/PC2, 29 ADC123IN13/PC3, 30 VSSA, 31 VREF-, 32 VREF+, 33 VDDA, 34 WKUP/CTS2/ADC123IN0/TIM5CH1/TIM2CH1ETR/TIM8ETR/PA0, 35 RTS2/ADC123IN1/TIM5CH2/TIM2CH2/PA1, 36 TXD2/TIM5CH3/ADC123IN2/TIM2CH3/PA2, 37 RXD2/TIM5CH4/ADC123IN3/TIM2CH4/PA3, 38 VSS4, 39 VDD4, 40 NSS1/DACOUT1/TCK2/ADC12IN4/PA4, 41 SPI1SCK/DACOUT2/ADC12IN5/PA5, 42 MISO1/TIM8BKIN/ADC12IN6/TIM3CH1/PA6, 43 SPI1MOSI/TIM8CH1N/ADC12IN7/TIM3CH2/PA7, 44 ADC123IN14/PC4, 45 ADC123IN15/PC5, 46 ADC12IN8/TIM3CH3/TIM8CH2N/PB0, 47 ADC12IN9/TIM3CH4/TIM8CH3N/PB1, 48 BOOT1/PB2, 49 PF11/NIOS16, 50 PF12/A6, 51 VSS6, 52 VDD6, 53 PF13/A7, 54 PF14/A8, 55 PF15/A9, 56 PG0/A10, 57 PG1/A11, 58 TIM1ETR/D4/PE7, 59 TIM1CH1N/D5/PE8, 60 TIM1CH1/D6/PE9, 61 VSS7, 62 VDD7, 63 TIM1CH2N/D7/PE10, 64 TIM1CH2/D8/PE11, 65 TIM1CH3N/D9/PE12, 66 TIM1CH3/D10/PE13, 67 TIM1CH4/D11/PE14, 68 TIM1BKIN/D12/PE15, 69 I2C2SCL/TXD3/TIM2CH3/PB10, 70 I2C2SDA/RXD3/TIM2CH4/PB11, 71 VSS1, 72 VDD1, 73 NSS2/SMBAI2/I2S2WS/TCK3/TIM1BKIN/PB12, 74 SCK2/I2S2CK/CTS3/TIM1CH1N/PB13, 75 SPI2MISO/RTS3/TIM1CH2N/PB14, 76 SPI2MOSI/I2S2SD/TIM1CH3N/PB15, 77 TXD3/D13/PD8, 78 RXD3/D14/PD9, 79 D15/TCK3/PD10, 80 A16/CTS3/PD11, 81 TIM4CH1/RTS3/A17/PD12, 82 TIM4CH2/A18/PD13, 83 VSS8, 84 VDD8, 85 TIM4CH3/D0/PD14, 86 TIM4CH4/D1/PD15, 87 PG2/A12, 88 PG3/A13, 89 PG4/A14, 90 PG5/A15, 91 PG6/INT2, 92 PG7/INT3, 93 PG8, 94 VSS9, 95 VDD9, 96 I2S2MCK/TIM8CH1/SDD6/TIM3CH1/PC6, 97 I2S3_MCK/TIM8_CH2/SDIO_D7/TIM3_CH2/PC7, 98 TIM8_CH3/SDIO_D0/TIM3_CH3/PC8, 99 TIM8_CH4.SDIO_D1/TIM3_CH4/PC9, 100 SUART_CK/TIM1_CH1/MCO/PA8, 101 TXD1/TIM1CH2/PA9, 102 RXD1/TIM1CH3/PA10, 103 USART1_CTS/CANRX/TIM1_CH4/USBDM/PA11, 104 RTS1/CANTX/TIM1ETR/USBDP/PA12, 105 JTMS/SWDIO/PA13, 106 NC, 107 VSS2, 108 VDD2, 109 JTCK/SWCLK/PA14, 110 JTDI/SPI3_NSS/I2S3_WS/TIM2_CH1_ETR/SPI1_NSS/PA15, 111 TXD4/SDD2/TXD3/PC10, 112 UART4_RX/SDIO_D3/USART3_RX/PC11, 113 UART5_TX/SDIO_CK/USART3_CK/PC12, 114 OSC_IN/FSMC_D2/CANRX/PD0, 115 OSC_OUT/FSMC_D3/CANTX/PD1, 116 TIM3_ETR/UART5_RX/SDIO_CMD/PD2, 117 FSMC_CLK/USART2_CTS/PD3, 118 NOE/RTS2/PD4, 119 FSMC_NWE/USART2_TX/PD5, 120 VSS10, 121 VDD10, 122 FSMC_NWAIT/USART2_RX/PD6, 123 FSMC_NE1/FSMC_NCE2/USART2_CK/PD7, 124 PG9/FSMC_NE2/FSMC_NCE3, 125 PG10/NCE4_1/NE3, 126 PG11/NCE4_2, 127 PG12/NE4, 128 PG13/A24, 129 PG14/A25, 130 VSS11, 131 VDD11, 132 PG15, 133 TRACESWO/JTDO/SCK3/I2S3CK/TIM2CH2/SCK1/PB3, 134 JNTRST/MISO3/TIM3CH1/MISO1/PB4, 135 SMBAI1/MOSI3/I2S3SD/TIM3CH2/MOSI1/PB5, 136 SCL1/TIM4CH1/TXD1/PB6, 137 SDA1/NADV/TIM4CH2/RXD1/PB7, 138 BOOT0, 139 TIM4CH3/SDD4/SCL1/CANRX/PB8, 140 TIM4CH4/SDD5/SDA1/CANTX/PB9, 141 TIM4ETR/NBL0/PE0, 142 NBL1/PE1, 143 VSS3, 144 VDD3

## SV35D20
designator ?
pins: 1, 2, 3, 4, 5, 6, 7, 9, 10

## SV35D20-4
designator ?
pins: 1, 2, 3, 4, 5, 6, 7, 9, 10

## SV2810
designator ?
footprint KD2818-01
pins: 1, 2, 3, 4, 5
text: 11V30mA; 11V20mA

## SV2810-1
designator ?
footprint KD2818-01
pins: 1, 2, 3, 4, 5

## SV2814-1
designator ?
footprint KD2818-01
pins: 1, 2, 5, 6, 7, 9, 10
text: 10V50mA; 10V20mA

## SV2818-1
designator ?
footprint KD2818-01
pins: 1, 2, 5, 6, 7, 9, 10
text: 11V 25mA; 11V 60mA; 10V 20mA

## SV2818-1_1
designator ?
footprint KD2818-01
pins: 1, 2, 5, 6, 7, 9, 10

## SV3515
designator ?
footprint KD2818-01
pins: 1, 2, 5, 6, 7, 9, 10

## SW-NC
designator ?
pins: 1, 3

## SW-NO
designator ?
pins: 1, 2

## SW-PB
designator S?
Switch; Published: 24-Mar-1999; LatestRevisionDate: 17-Jul-2002; LatestRevisionNote: Re-released for DXP Platform.; PackageReference: SPST-2; Publisher: Altium Limited
footprint SPST-2 (Switch; 2 Leads)
footprint SW-PB (switch kai guan)
pins: 1, 2

## SW-PB-10
designator ?
pins: 1, 2

## SW-PB_1
designator ?
pins: 1, 2

## SW-SPST
designator ?
pins: 1, 2

## SW-SPST-10
designator ?
pins: 1, 2

## SX28D20-X
designator ?
pins: 1, 2, 5, 6, 7, 8, 9, 10

## TEST
designator P?
BNC Elbow Connector; LatestRevisionDate: 17-Jul-2002; LatestRevisionNote: Re-released for DXP Platform.; Publisher: Altium Limited
footprint MIN_BNC
pins: 1 Y1

## TF/SD_CONNECT
designator *
pins: 1 D2, 2 CD/D3, 3 CMD, 4 VDD, 5 CLK, 6 VSS, 7 D0, 8 D1

## TL431
designator ?
pins: A, K, R

## TL431-10
designator ?
pins: A, K, R

## TL431-123
designator ?
pins: 1 R, 2 A, 3 K

## TLV22111DBV
designator ?
pins: 1 IN+, 2 VDD-/GND, 3 IN-, 4 OUT, 5 VDD+

## TM1621-LQFP44
designator U?
footprint LQFP44
pins: 1 CSN, 2 WRN, 3 DATA, 4 GND, 5 VLCD, 6 VDD, 7 BZ, 8 BZN, 9 COM0, 10 COM1, 11 COM2, 12 COM3, 13 S31, 14 S30, 15 S29, 16 S28, 17 S27, 18 S26, 19 S25, 20 S24, 21 S23, 22 S22, 23 S21, 24 S20, 25 S19, 26 S18, 27 S17, 28 S16, 29 S15, 30 S14, 31 S13, 32 S12, 33 S11, 34 S10, 35 S9, 36 S8, 37 S7, 38 S6, 39 S5, 40 S4, 41 S3, 42 S2, 43 S1, 44 S0

## TM1721
designator U?
pins: 1 VDD, 2 DIO, 3 CLK, 4 STB, 5 GND, 6 KS0, 7 KS1, 8 KS2, 9 KS3, 10 KS4, 11 KS5, 12 SEG31/KEY3, 13 SEG30/KEY2, 14 SEG29/KEY1, 15 SEG28/KEY0, 16 SEG27/SW3, 17 SEG26/SW2, 18 SEG25/SW1, 19 SEG24/SW0, 20 SEG23/PWM3, 21 SEG22/PEM2, 22 SEG21/PWM1, 23 SEG20/PWM0, 24 SEG19, 25 SEG18, 26 SEG17, 27 SEG16, 28 SEG15, 29 SEG14, 30 SEG13, 31 SEG12, 32 SEG11, 33 SEG10, 34 SEG9, 35 SEG8, 36 SEG7, 37 SEG6, 38 SEG5, 39 SEG4, 40 SEG3, 41 SEG2, 42 NC, 43 SEG1, 44 SEG0, 45 COM3, 46 COM2, 47 COM1, 48 COM0

## TM1723
designator ?
pins: 1 VDD (power), 2 DIO, 3 CLK, 4 STB, 5 GND (power), 6 KS1, 7 KS2, 8 KS3, 9 SEG31/KI3, 10 SEG30/KI2, 11 SEG29/KI1, 12 SEG28/KI0, 13 SEG25/SW1, 14 SEG24/SW0, 15 SEG23/PWM3, 16 SEG22/PWM2, 17 SEG21/PWM1, 18 SEG20/PWM0, 19 SEG19, 20 SEG18, 21 SEG11, 22 SEG10, 23 SEG9, 24 SEG8, 25 SEG7, 26 SEG6, 27 SEG5, 28 SEG4, 29 COM3, 30 COM2, 31 COM1, 32 COM0

## TPS54560
designator *
pins: 1 BOOT, 2 VIN, 3 EN, 4 RT/CLK, 5 FB, 6 COMP, 7 GND, 8 SW, 9 EP-GND

## TPS563210DDF
designator *
pins: 1 GND, 2 SW, 3 VIN, 4 PG, 5 SS, 6 VFB, 7 EN, 8 VBST

## TQ2-5V
designator *
pins: 1, 2, 3, 4, 5, 6, 7, 8, 9, 10
text: _; +

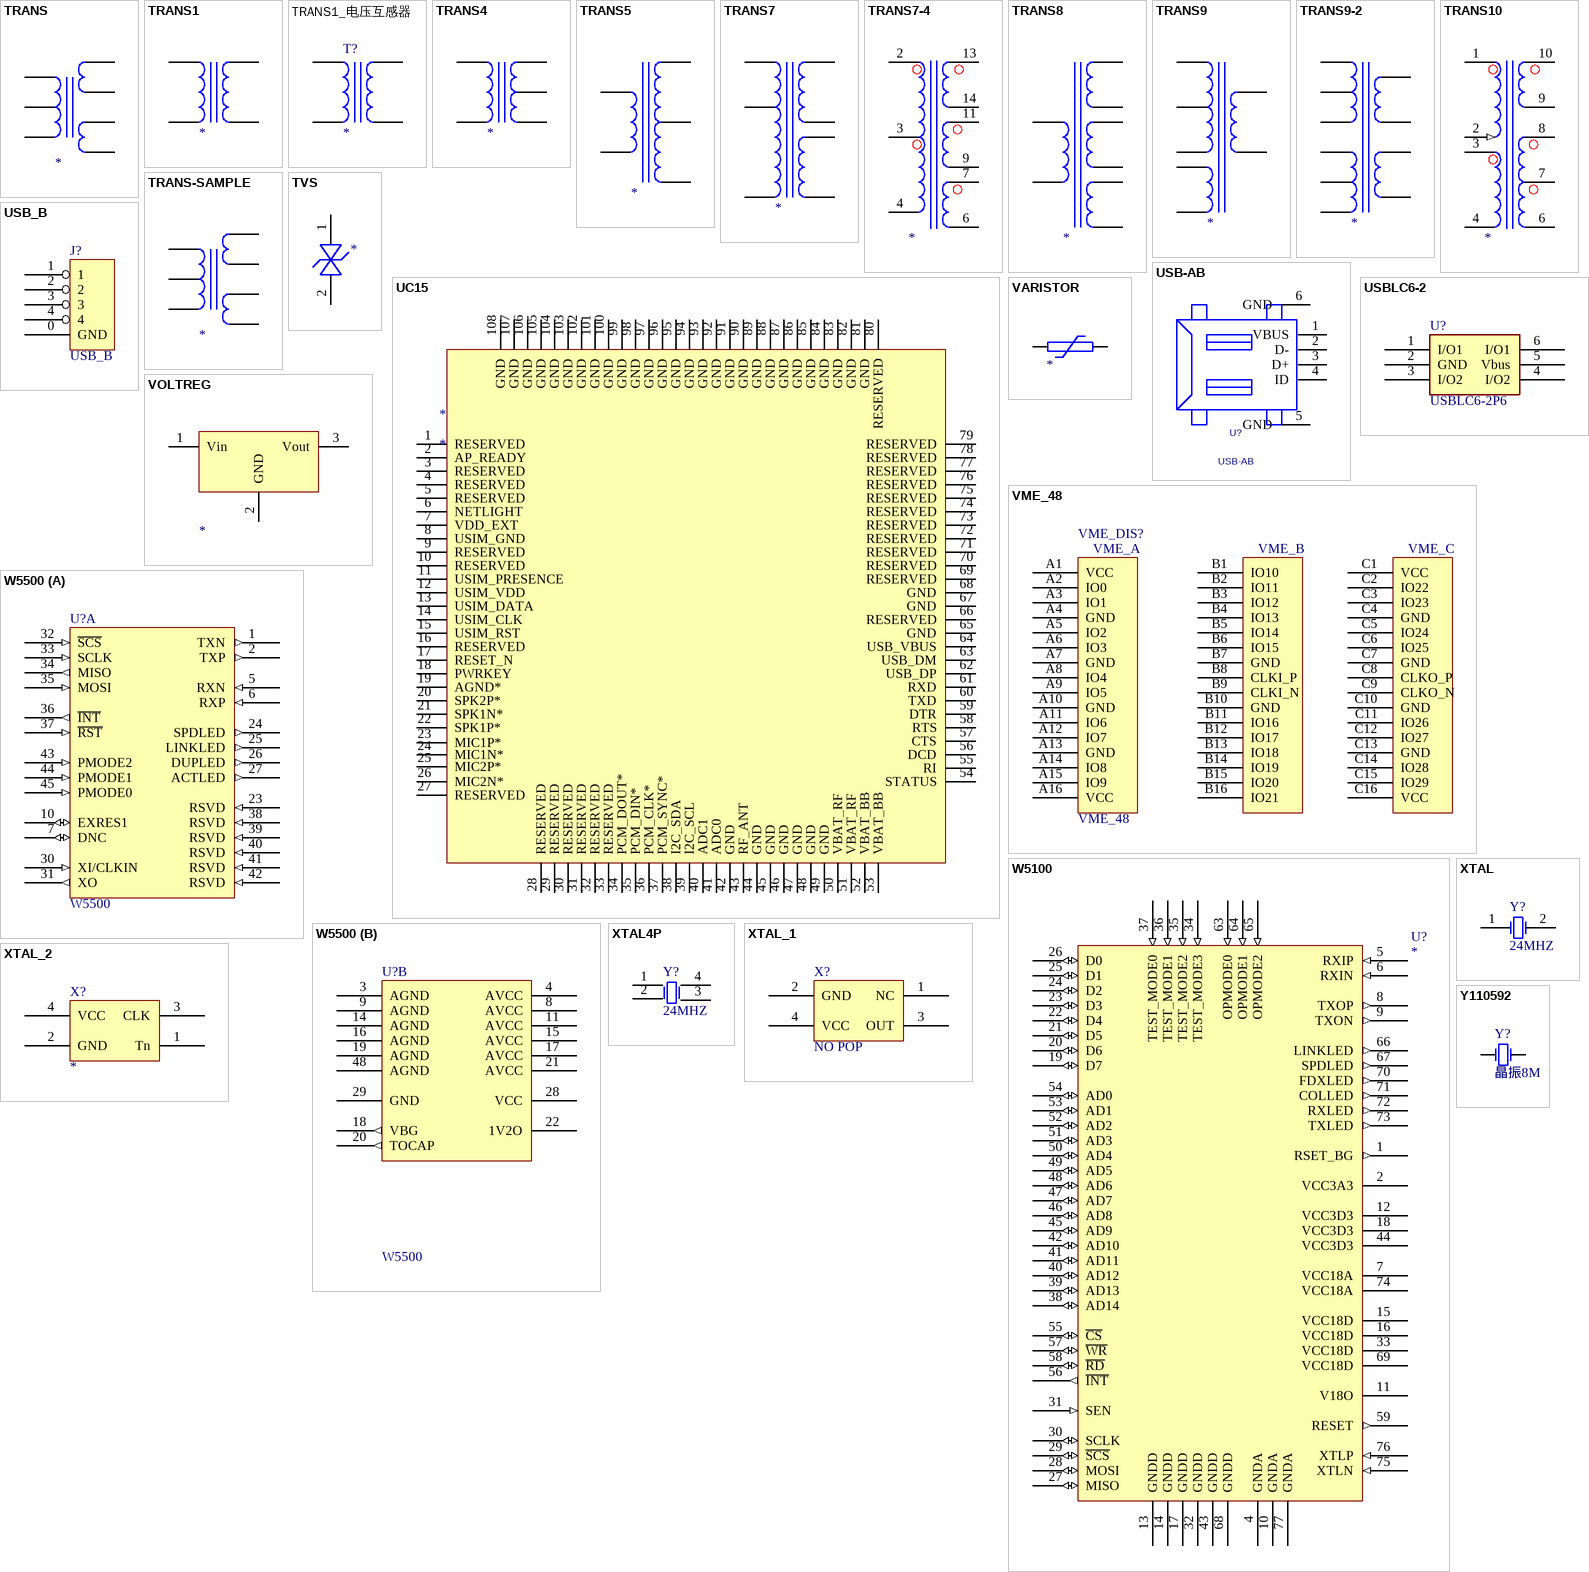
[diagram p13: symbols TRANS to Y110592]

## TRANS
designator ?
pins: 1, 2, 3, 4, 5, 6, 7

## TRANS1
designator ?
pins: 1, 2, 3, 4

## TRANS1_电压互感器
designator T?
pins: 1, 2, 3, 4

## TRANS4
designator ?
pins: 1, 2, 3, 4, 5

## TRANS5
designator ?
pins: 1, 2, 3, 4, 5

## TRANS7
designator ?
pins: 1, 2, 5, 6, 7, 9, 10

## TRANS7-4
designator ?
pins: 2, 3, 4, 6, 7, 9, 11, 13, 14 13

## TRANS8
designator ?
pins: 1, 2, 3, 4, 5, 6, 7, 8

## TRANS9
designator ?
pins: 1, 2, 3, 4, 5, 6, 7

## TRANS9-2
designator ?
pins: 1, 2, 3, 4, 5, 6, 7, 8, 9, 10

## TRANS10
designator ?
pins: 1, 2 (in), 3, 4, 6, 7, 8, 9, 10

## TRANS-SAMPLE
designator ?
pins: 1, 3, 5, 12, 13, 15, 16

## TVS
designator ?
pins: 1, 2

## UC15
designator *
pins: 1 RESERVED, 2 AP_READY, 3 RESERVED, 4 RESERVED, 5 RESERVED, 6 NETLIGHT, 7 VDD_EXT, 8 USIM_GND, 9 RESERVED, 10 RESERVED, 11 USIM_PRESENCE, 12 USIM_VDD, 13 USIM_DATA, 14 USIM_CLK, 15 USIM_RST, 16 RESERVED, 17 RESET_N, 18 PWRKEY, 19 AGND*, 20 SPK2P*, 21 SPK1N*, 22 SPK1P*, 23 MIC1P*, 24 MIC1N*, 25 MIC2P*, 26 MIC2N*, 27 RESERVED, 28 RESERVED, 29 RESERVED, 30 RESERVED, 31 RESERVED, 32 RESERVED, 33 RESERVED, 34 PCM_DOUT*, 35 PCM_DIN*, 36 PCM_CLK*, 37 PCM_SYNC*, 38 I2C_SDA, 39 I2C_SCL, 40 ADC1, 41 ADC0, 42 GND, 43 RF_ANT, 44 GND, 45 GND, 46 GND, 47 GND, 48 GND, 49 GND, 50 VBAT_RF, 51 VBAT_RF, 52 VBAT_BB, 53 VBAT_BB, 54 STATUS, 55 RI, 56 DCD, 57 CTS, 58 RTS, 59 DTR, 60 TXD, 61 RXD, 62 USB_DP, 63 USB_DM, 64 USB_VBUS, 65 GND, 66 RESERVED, 67 GND, 68 GND, 69 RESERVED, 70 RESERVED, 71 RESERVED, 72 RESERVED, 73 RESERVED, 74 RESERVED, 75 RESERVED, 76 RESERVED, 77 RESERVED, 78 RESERVED, 79 RESERVED, 80 RESERVED, 81 GND, 82 GND, 83 GND, 84 GND, 85 GND, 86 GND, 87 GND, 88 GND, 89 GND, 90 GND, 91 GND, 92 GND, 93 GND, 94 GND, 95 GND, 96 GND, 97 GND, 98 GND, 99 GND, 100 GND, 101 GND, 102 GND, 103 GND, 104 GND, 105 GND, 106 GND, 107 GND, 108 GND

## USB-AB
designator U?
pins: 1 VBUS, 2 D-, 3 D+, 4 ID, 5 GND, 6 GND

## USB_B
designator J?
footprint USBcz
footprint USB-SQUARE
pins: 0 GND, 1, 2, 3, 4

## USBLC6-2
designator U?, comment USBLC6-2P6
footprint SOT-666 (Footprint not found)
pins: 1 I/O1, 2 GND, 3 I/O2, 4 I/O2, 5 Vbus, 6 I/O1

## VARISTOR
designator ?
pins: 1, 2

## VME_48
designator VME_DIS?
footprint VME_FOK
footprint VME48-M
pins: A1 VCC, A2 IO0, A3 IO1, A4 GND, A5 IO2, A6 IO3, A7 GND, A8 IO4, A9 IO5, A10 GND, A11 IO6, A12 IO7, A13 GND, A14 IO8, A15 IO9, A16 VCC, B1 IO10, B2 IO11, B3 IO12, B4 IO13, B5 IO14, B6 IO15, B7 GND, B8 CLKI_P, B9 CLKI_N, B10 GND, B11 IO16, B12 IO17, B13 IO18, B14 IO19, B15 IO20, B16 IO21, C1 VCC, C2 IO22, C3 IO23, C4 GND, C5 IO24, C6 IO25, C7 GND, C8 CLKO_P, C9 CLKO_N, C10 GND, C11 IO26, C12 IO27, C13 GND, C14 IO28, C15 IO29, C16 VCC
2 alternate drawings of the same symbol
text: VME_A; VME_B; VME_C

## VOLTREG
designator ?
pins: 1 Vin, 2 GND, 3 Vout

## W5100
designator U?
W5100以太网芯片
footprint LQFP80
pins: 1 RSET_BG (out), 2 VCC3A3 (power), 4 GNDA (power), 5 RXIP (in), 6 RXIN (in), 7 VCC18A (power), 8 TXOP (out), 9 TXON (out), 10 GNDA (power), 11 V18O (power), 12 VCC3D3 (power), 13 GNDD (power), 14 GNDD (power), 15 VCC18D (power), 16 VCC18D (power), 17 GNDD (power), 18 VCC3D3 (power), 19 D7 (io), 20 D6 (io), 21 D5 (io), 22 D4 (io), 23 D3 (io), 24 D2 (io), 25 D1 (io), 26 D0 (io), 27 MISO (io), 28 MOSI (io), 29 ~{SCS} (io), 30 SCLK (io), 31 SEN (in), 32 GNDD (power), 33 VCC18D (power), 34 TEST_MODE3 (in), 35 TEST_MODE2 (in), 36 TEST_MODE1 (in), 37 TEST_MODE0 (in), 38 AD14 (io), 39 AD13 (io), 40 AD12 (io), 41 AD11 (io), 42 AD10 (io), 43 GNDD (power), 44 VCC3D3 (power), 45 AD9 (io), 46 AD8 (io), 47 AD7 (io), 48 AD6 (io), 49 AD5 (io), 50 AD4 (io), 51 AD3 (io), 52 AD2 (io), 53 AD1 (io), 54 AD0 (io), 55 ~{CS} (io), 56 ~{INT} (out), 57 ~{WR} (io), 58 ~{RD} (io), 59 RESET (out), 63 OPMODE0 (in), 64 OPMODE1 (in), 65 OPMODE2 (in), 66 LINKLED (out), 67 SPDLED (out), 68 GNDD (power), 69 VCC18D (power), 70 FDXLED (out), 71 COLLED (out), 72 RXLED (out), 73 TXLED (out), 74 VCC18A (power), 75 XTLN (in), 76 XTLP (in), 77 GNDA (power)
2 alternate drawings of the same symbol

## W5500
designator U?
footprint LQFP-48
part A pins: 1 TXN (out), 2 TXP (out), 5 RXN (in), 6 RXP (in), 7 DNC (io), 10 EXRES1 (io), 23 RSVD (in), 24 SPDLED (out), 25 LINKLED (out), 26 DUPLED (out), 27 ACTLED (out), 30 XI/CLKIN (in), 31 XO (out), 32 ~{SCS} (in), 33 SCLK (in), 34 MISO (out), 35 MOSI (in), 36 ~{INT} (out), 37 ~{RST} (in), 38 RSVD (in), 39 RSVD (in), 40 RSVD (in), 41 RSVD (in), 42 RSVD (in), 43 PMODE2 (in), 44 PMODE1 (in), 45 PMODE0 (in)
part B pins: 3 AGND (power), 4 AVCC (power), 8 AVCC (power), 9 AGND (power), 11 AVCC (power), 14 AGND (power), 15 AVCC (power), 16 AGND (power), 17 AVCC (power), 18 VBG (out), 19 AGND (power), 20 TOCAP (out), 21 AVCC (power), 22 1V2O (power), 28 VCC (power), 29 GND (power), 48 AGND (power)

## XTAL
designator Y?, comment 24MHZ
Crystal Oscillator; Published: 8-Jun-2000; LatestRevisionDate: 17-Jul-2002; LatestRevisionNote: Re-released for DXP Platform.; PackageReference: R38; Publisher: Altium Limited
footprint R38
footprint CY_2
footprint 24MHZ_CTRL
footprint 24MHZ_CTRL
pins: 1 OSC1, 2 OSC2
2 alternate drawings of the same symbol

## XTAL4P
designator Y?, comment 24MHZ
Crystal Oscillator; Published: 8-Jun-2000; LatestRevisionDate: 17-Jul-2002; LatestRevisionNote: Re-released for DXP Platform.; PackageReference: R38; Publisher: Altium Limited
footprint R38
footprint CY_2
footprint 24MHZ_CTRL
footprint 24MHZ_CTRL
pins: 1 OSC1, 2 OSC1, 3 OSC1, 4 OSC2
2 alternate drawings of the same symbol

## XTAL_1
designator X?, comment NO POP
footprint XTALSMD
pins: 1 NC, 2 GND, 3 OUT, 4 VCC

## XTAL_2
designator X?
footprint XTALSMD
pins: 1 Tn, 2 GND, 3 CLK, 4 VCC

## Y110592
designator Y?, comment 晶振8M
Value: 8M
footprint Y110592
pins: 1 OSC1, 2 OSC2

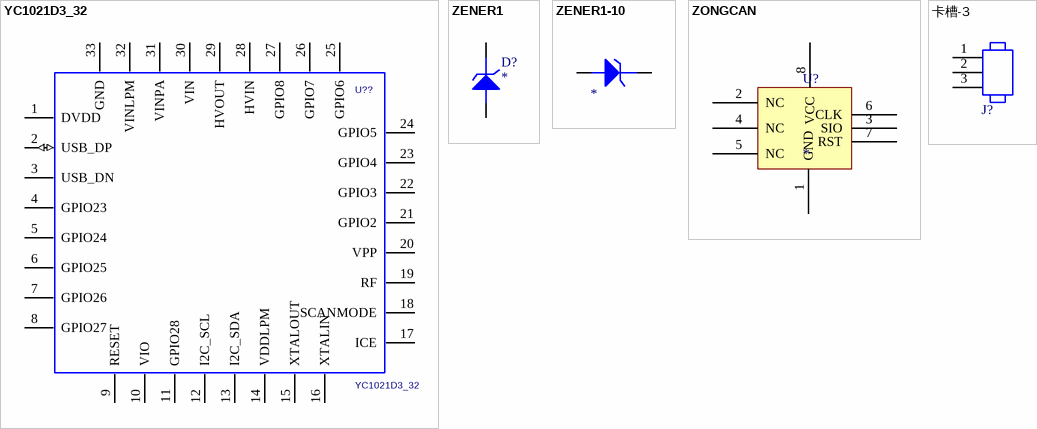
[diagram p14: symbols YC1021D3_32 to 卡槽-3]

## YC1021D3_32
designator U??
PCB DECAL: QFN4X4_32_16
footprint QFN4X4_32_16
pins: 1 DVDD (power), 2 USB_DP (io), 3 USB_DN, 4 GPIO23, 5 GPIO24, 6 GPIO25, 7 GPIO26, 8 GPIO27, 9 RESET, 10 VIO, 11 GPIO28, 12 I2C_SCL, 13 I2C_SDA, 14 VDDLPM, 15 XTALOUT, 16 XTALIN, 17 ICE, 18 SCANMODE, 19 RF, 20 VPP, 21 GPIO2, 22 GPIO3, 23 GPIO4, 24 GPIO5, 25 GPIO6, 26 GPIO7, 27 GPIO8, 28 HVIN, 29 HVOUT, 30 VIN, 31 VINPA, 32 VINLPM, 33 GND

## ZENER1
designator D?
Zener Diode
pins: A, K

## ZENER1-10
designator ?
pins: 1 A, 2 K

## ZONGCAN
designator U?
footprint SOT-23-5
pins: 1 GND, 2 NC, 3 SIO, 4 NC, 5 NC, 6 CLK, 7 RST, 8 VCC

## 卡槽-3
designator J?, comment SW  (value not drawn)
footprint XH3PL
pins: 1 0, 2 1, 3 2